# EAGLE library part CTS745C101 (library di_ic)
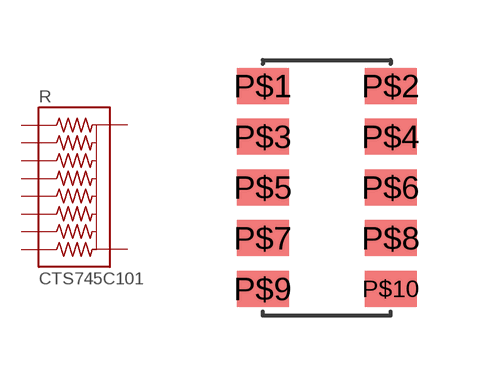
[diagram p8: symbol with the pads of CTS745; footprint CTS745]

Designator prefix R

## CTS745C101  [CTS745]
P$1  1  pas
P$2  2  pas
P$3  3  pas
P$4  4  pas
P$5  5  pas
P$6  6  pas
P$7  7  pas
P$8  8  pas
P$9  9  pas
P$10  10  pas

## Footprint CTS745 (pad centres in mm)
smd 1.3 x 0.9: P$1 -1.6,2.55; P$2 1.6,2.55; P$3 -1.6,1.28; P$4 1.6,1.28; P$5 -1.6,0.01; P$6 1.6,0.01; P$7 -1.6,-1.26; P$8 1.6,-1.26; P$9 -1.6,-2.53; P$10 1.6,-2.53